# Altium schematic symbol library SCH - RTC - MICRO CRYSTAL RV3032.SCHLIB: 1 symbol
Pins are listed as number, name and electrical type; pins without a type are passive.

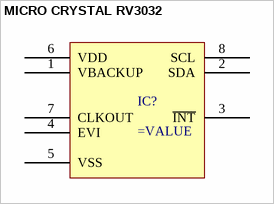
[diagram p0: symbol MICRO CRYSTAL RV3032]

## MICRO CRYSTAL RV3032
designator IC?
pins: 1 VBACKUP, 2 SDA, 3 ~{INT}, 4 EVI, 5 VSS, 6 VDD, 7 CLKOUT, 8 SCL